# Altium schematic symbol library 2.Capasitors.SchLib: 30 symbols
Pins are listed as number, name and electrical type; pins without a type are passive.

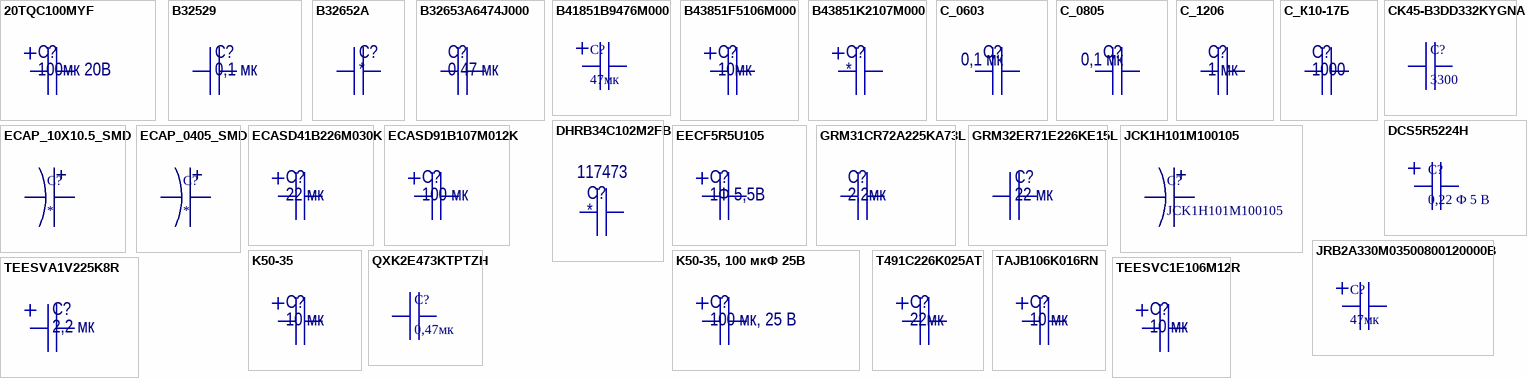
[diagram p0: symbols 20TQC100MYF to TEESVC1E106M12R]

## 20TQC100MYF
designator C?, comment 100мк 20В
100UF, 20V, TANT, POLYMER, CASE D3L
footprint TQC-D2
pins: 1, 2

## B32529
designator C?, comment 0,1 мк
Конденсатор металлоплёночный
footprint B32529
pins: 1, 2

## B32652A
designator C?
Конденсатор металлоплёночный
footprint B32652A
pins: 1, 2

## B32653A6474J000
designator C?, comment 0.47 мк
Конденсатор металлоплёночный 0.47 мкФ, 630 В, 5%
footprint B32653
pins: 1, 2

## B41851B9476M000
designator C?, comment 47мк
Конденсатор электролитический алюминиевый 47 мкФ, 100 В
footprint К50-35 - 10x12.5
pins: 1, 2

## B43851F5106M000
designator C?, comment 10мк
Конденсатор электролитический алюминиевый
footprint К50-35 - 10x12.5
pins: 1, 2

## B43851K2107M000
designator C?
Конденсатор электролитический алюминиевый
footprint К50-35 - 16x31.5
footprint К50-35 - 16x31.5_
pins: 1, 2

## C_0603
designator C?, comment 0,1 мк
footprint C_0603 (Chip Resistor, 2-Leads, Body 1.60x0.80mm, IPC Medium Density)
pins: 1, 2

## C_0805
designator C?, comment 0,1 мк
footprint C_0805 (Chip Capacitor, 2-Leads, Body 2,00x1,25mm, IPC Medium Density)
pins: 1, 2

## C_1206
designator C?, comment 1 мк
footprint C_1206 (Chip Capacitor, 2-Leads, Body 3,20x1,60mm, IPC Medium Density)
pins: 1, 2

## C_К10-17Б
designator C?, comment 1000
footprint К10-17Б
pins: 1, 2

## CK45-B3DD332KYGNA
designator C?, comment 3300
Конденсатор керамический дисковый, 3300 пФ, 2 кВ +10%
footprint CK45
pins: 1, 2

## DCS5R5224H
designator C?, comment 0,22 Ф 5 В
0.22 Ф, 5.5 В, Ионистор
footprint DCS_H_TYpe
pins: 1, 2

## DHRB34C102M2FB
designator C?  Supplier Part Number 1: 117473
CAP, CER, B, 1NF, 15KV, RAD; Supplier 1: RSComponents
footprint DHR_Murata
pins: 1, 2

## ECAP_10X10.5_SMD
designator C?
footprint ECAP_10x10.5_SMD
pins: 1, 2

## ECAP_0405_SMD
designator C?
footprint ECAP_SMD_0406
pins: 1, 2

## ECASD41B226M030K
designator C?, comment 22 мк
footprint ECASD9
pins: 1, 2

## ECASD91B107M012K
designator C?, comment 100 мк
footprint ECASD9
pins: 1, 2

## EECF5R5U105
designator C?, comment 1Ф 5,5В
1 Ф, 5.5 В, 5 мм, 2208H, Ионистор
footprint EECF5R5u
pins: 1, 2

## GRM31CR72A225KA73L
designator C?, comment 2,2мк
2.2 мкФ ±10 %; 100 В; X7R; 1206
footprint C_1206 (Chip Capacitor, 2-Leads, Body 3,20x1,60mm, IPC Medium Density)
pins: 1, 2

## GRM32ER71E226KE15L
designator C?, comment 22 мк
footprint C_1210 (Chip Capacitor, 2-Leads, Body 3.20x2.50mm, IPC Medium Density)
pins: 1, 2

## JCK1H101M100105
designator C?
footprint ECAP_SMD_10x10.5
footprint ECAP_SMD_18x16.5
footprint ECAP_18x36
footprint ECAP_SMD_12x14
footprint ECAP_13x35
pins: 1, 2

## JRB2A330M03500800120000B
designator C?, comment 47мк
ECAP (К50-35), 33мкФ, 100В, 105°C, 20%, 8x12мм P:3.5мм, Конденсатор электролитический алюминиевый
footprint К50-35 - 8x11.5
pins: 1, 2

## K50-35
designator C?, comment 10 мк
footprint К50-35
footprint К50-35 - 8x11.5
pins: 1, 2

## K50-35, 100 мкФ 25В
designator C?, comment 100 мк, 25 В
ECAP (К50-35 мини), 100 мкФ, 25 В, 8х7мм,
footprint К50-35 - 8x11.5
pins: 1, 2

## QXK2E473KTPTZH
designator C?, comment 0,47мк
0.47 мкФ, 250 В, 10%, Конденсатор металлоплёночный
footprint CBB81
pins: 1, 2

## T491C226K025AT
designator C?, comment 22мк
CAP, TANT, 22UF, 25V, CASE C
footprint C_CASE
pins: 1, 2

## TAJB106K016RN
designator C?, comment 10 мк
footprint B_case (Chip Capacitor, 2-Leads, Body 3,50x2,80mm, IPC Medium Density)
pins: 1, 2

## TEESVA1V225K8R
designator C?, comment 2,2 мк
footprint A Case
pins: 1, 2

## TEESVC1E106M12R
designator C?, comment 10 мк
footprint C_Type_A (Chip Capacitor, 2-Leads, Body 3,20x1,60mm, IPC Medium Density)
pins: 1, 2